# Altium schematic symbol library TPD4E001DBVR.SchLib: 1 symbol
Pins are listed as number, name and electrical type; pins without a type are passive.

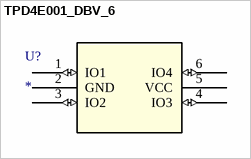
[diagram p0: symbol TPD4E001_DBV_6]

## TPD4E001_DBV_6
designator U?
Low-Capacitance 4-Channel ESD-Protection for High-Speed Data Interfaces; Manufacturer_Part_Number: tpd4e001_dbv_6; GENERIC_PART_NUMBER: TPD4E001; Vendor: Texas Instruments; PACKAGE_DESIGNATOR: DBV; PIN_COUNT: 6; FAMILY_NAME: ESD Solution; INDUSTRY_STD_PKG_TYPE: SOT-23; Datasheet URL: http://www.ti.com/lit/gpn/TPD4E001; Manufacturer: Texas Instruments; RefDes: RefDes; Type: DEV; Value: Value
footprint DBV6
pins: 1 IO1 (io), 2 GND (power), 3 IO2 (io), 4 IO3 (io), 5 VCC (power), 6 IO4 (io)